# Altium footprint library 28377一体板.PcbLib: 62 footprints (part 3 of 4)
Each footprint in its own frame and in the unit in brackets; x right, y up, seen from the top. Pads: shape width x height; smd on the part's side, far side on the other; paste and mask are expansions set on the pad; w line width, h text height; cw(c..) or ccw(c..) is an arc to the next point about the centre after c.
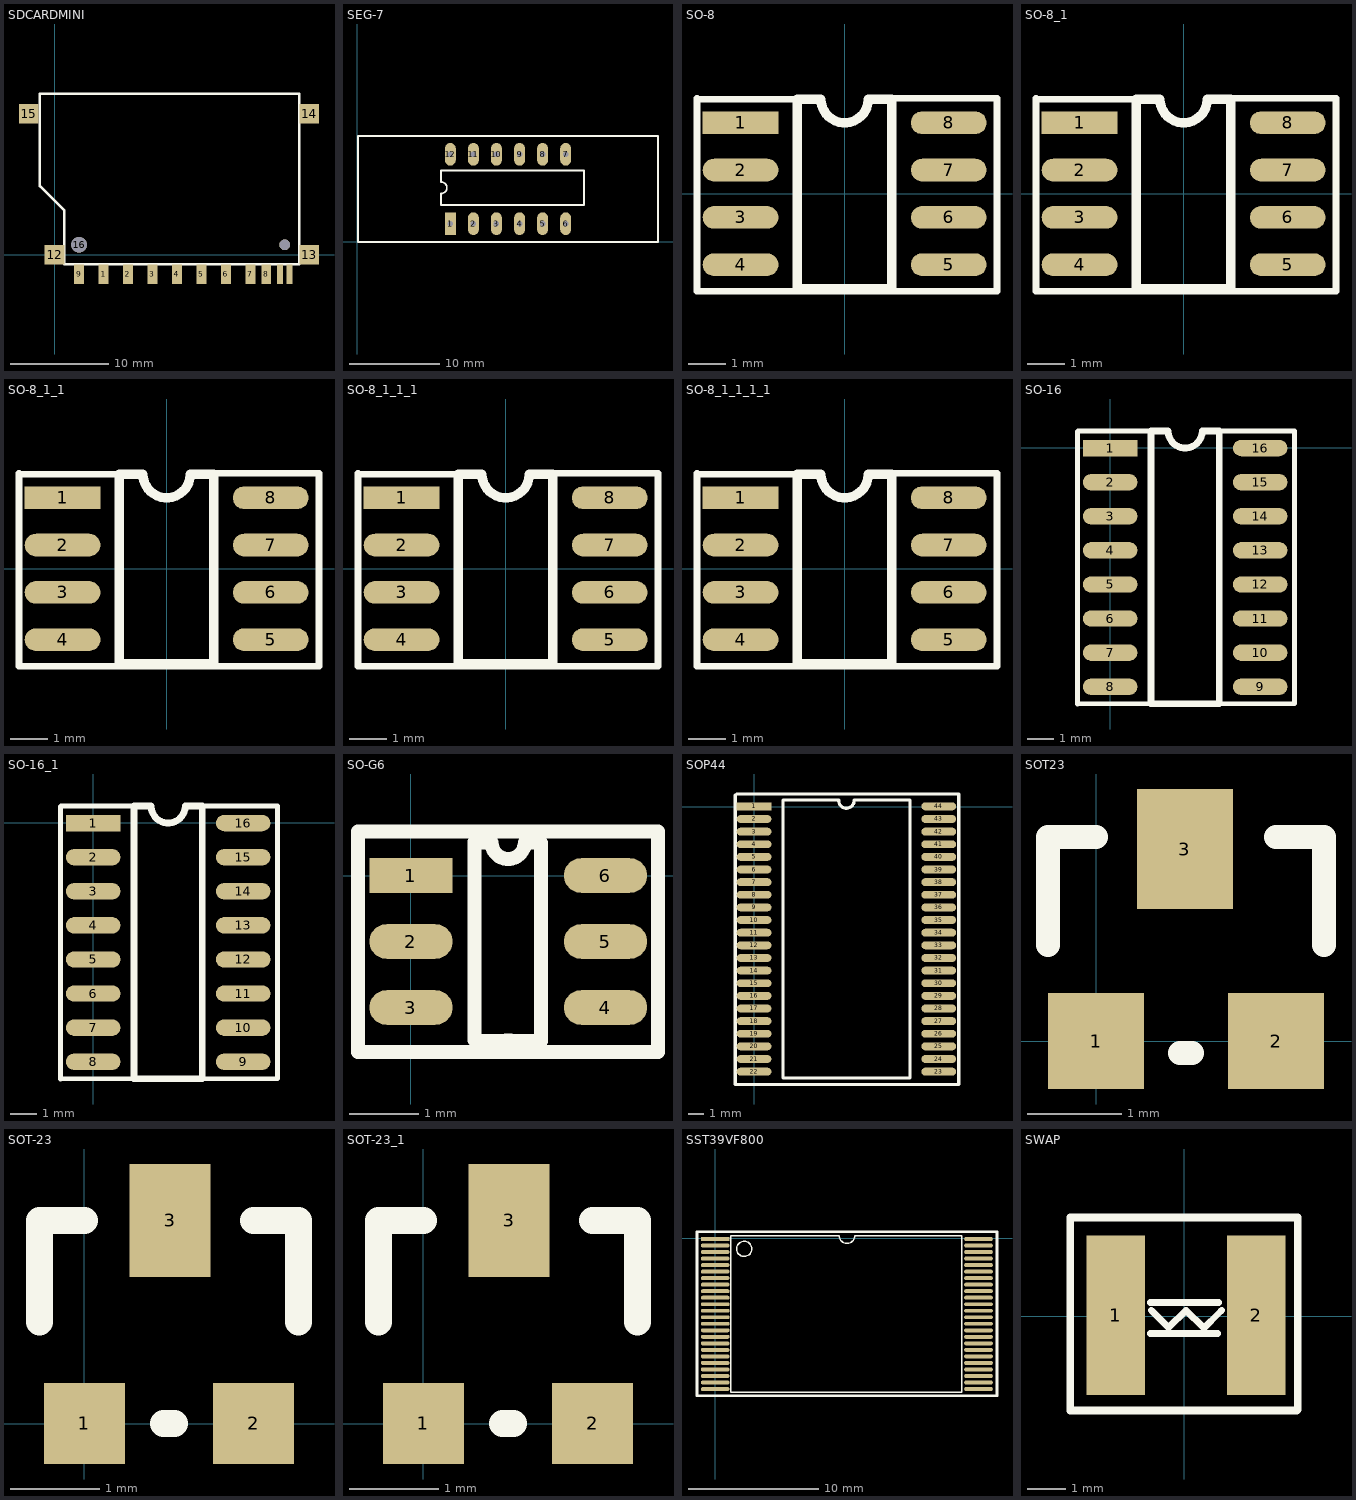
[diagram p2: the footprints below, top view; thin cyan lines are the x and y axes]

## SDCARDMINI [mm]
pads (17):
  rect 1x2 smd: 1(4.991,-2.009) 2(7.491,-2.009) 3(9.991,-2.009) 4(12.491,-2.009) 5(14.991,-2.009) 6(17.491,-2.009) 7(19.991,-2.009) 8(21.616,-2.009) 9(2.491,-2.009)
  rect 0.6x2 smd: 10(23.991,-2.009) 11(22.991,-2.009)
  rect 2x2 smd: 12(-0.009,-0.009) 13(25.991,-0.009) 14(25.991,14.391) 15(-2.637,14.391)
  round 1.6 hole 1.6: 16(2.491,0.991)
  round 1.1 hole 1.1: ""(23.491,0.991)
Top Overlay:
  lines w0.254: -1.509,6.991 0.991,4.491 0.991,-1.009 24.991,-1.009 24.991,16.391 -1.509,16.391 -1.509,6.991

## SEG-7 [mm]
pads (12):
  rect 1.2x2.5 hole 0.6: 1(10.236,2.007)
  oval 1.2x2.5 hole 0.6: 2(12.776,2.007) 3(15.316,2.007) 4(17.856,2.007) 5(20.396,2.007) 6(22.936,2.007) 7(22.936,9.627) 8(20.396,9.627) 9(17.856,9.627) 10(15.316,9.627) 11(12.776,9.627) 12(10.236,9.627)
Top Overlay:
  lines w0.2: 9.22,4.039 9.22,5.319 ccw(c9.22,5.954) 9.22,6.589 9.22,7.869 ; 24.968,4.039 24.968,7.869
  lines w0.203: 9.22,4.039 24.968,4.039 ; 9.22,7.869 24.968,7.869 ; 0.076,-0.025 0.076,4.039 0.076,11.659 1.092,11.659 33.096,11.659 33.096,4.039 33.096,-0.025 1.092,-0.025 0.076,-0.025

## SO-8 [mil]
pads (8):
  rect 80x24 smd: 1(-110,75)
  oval 80x24 smd: 2(-110,25) 3(-110,-25) 4(-110,-75) 5(110,-75) 6(110,-25) 7(110,25) 8(110,75)
Top Overlay:
  lines w7: -156,101 -156,-103 161,-103 161,101 47,101 ; -155,100 -50,100
  lines w10: -50,-100.3 50,-100.3 50,100 25,100 cw(c0,100) -25,100 -50,100 -50,-100.3

## SO-8_1 [mil]
pads (8):
  rect 80x24 smd: 1(-110,75)
  oval 80x24 smd: 2(-110,25) 3(-110,-25) 4(-110,-75) 5(110,-75) 6(110,-25) 7(110,25) 8(110,75)
Top Overlay:
  lines w7: -156,101 -156,-103 161,-103 161,101 47,101 ; -155,100 -50,100
  lines w10: -50,-100.3 50,-100.3 50,100 25,100 cw(c0,100) -25,100 -50,100 -50,-100.3

## SO-8_1_1 [mil]
pads (8):
  rect 80x24 smd: 1(-110,75)
  oval 80x24 smd: 2(-110,25) 3(-110,-25) 4(-110,-75) 5(110,-75) 6(110,-25) 7(110,25) 8(110,75)
Top Overlay:
  lines w7: -156,101 -156,-103 161,-103 161,101 47,101 ; -155,100 -50,100
  lines w10: -50,-100.3 50,-100.3 50,100 25,100 cw(c0,100) -25,100 -50,100 -50,-100.3

## SO-8_1_1_1 [mil]
pads (8):
  rect 80x24 smd: 1(-110,75)
  oval 80x24 smd: 2(-110,25) 3(-110,-25) 4(-110,-75) 5(110,-75) 6(110,-25) 7(110,25) 8(110,75)
Top Overlay:
  lines w7: -156,101 -156,-103 161,-103 161,101 47,101 ; -155,100 -50,100
  lines w10: -50,-100.3 50,-100.3 50,100 25,100 cw(c0,100) -25,100 -50,100 -50,-100.3

## SO-8_1_1_1_1 [mil]
pads (8):
  rect 80x24 smd: 1(-110,75)
  oval 80x24 smd: 2(-110,25) 3(-110,-25) 4(-110,-75) 5(110,-75) 6(110,-25) 7(110,25) 8(110,75)
Top Overlay:
  lines w7: -156,101 -156,-103 161,-103 161,101 47,101 ; -155,100 -50,100
  lines w10: -50,-100.3 -50,100 -25,100 ccw(c0,100) 25,100 50,100 50,-100.3 -50,-100.3

## SO-16 [mil]
pads (16):
  rect 80x24 smd: 1(-0.23,-0.21)
  oval 80x24 smd: 2(-0.23,-50.21) 3(-0.23,-100.21) 4(-0.23,-150.21) 5(-0.23,-200.21) 6(-0.23,-250.21) 7(-0.23,-300.21) 8(-0.23,-350.21) 9(219.77,-350.21) 10(219.77,-300.21) 11(219.77,-250.21) 12(219.77,-200.21) 13(219.77,-150.21) 14(219.77,-100.21) 15(219.77,-50.21) 16(219.77,-0.21)
Top Overlay:
  lines w7: -48,19 -48,24 ; -48,20 -48,-376 -47.21,-375.21 86,-375.21 ; -47.21,24.79 62,24.79 ; 155,24.79 269.79,24.79 270,25 ; 157,-375.21 269.79,-375.21 270,-375 270,24
  lines w10: 59.77,-375.21 159.77,-375.21 159.77,24.79 134.77,24.79 cw(c109.77,24.79) 84.77,24.79 59.77,24.79 59.77,-375.21

## SO-16_1 [mil]
pads (16):
  rect 80x24 smd: 1(-0.23,-0.21)
  oval 80x24 smd: 2(-0.23,-50.21) 3(-0.23,-100.21) 4(-0.23,-150.21) 5(-0.23,-200.21) 6(-0.23,-250.21) 7(-0.23,-300.21) 8(-0.23,-350.21) 9(219.77,-350.21) 10(219.77,-300.21) 11(219.77,-250.21) 12(219.77,-200.21) 13(219.77,-150.21) 14(219.77,-100.21) 15(219.77,-50.21) 16(219.77,-0.21)
Top Overlay:
  lines w7: -48,19 -48,24 ; -48,20 -48,-376 -47.21,-375.21 86,-375.21 ; -47.21,24.79 62,24.79 ; 155,24.79 269.79,24.79 270,25 ; 157,-375.21 269.79,-375.21 270,-375 270,24
  lines w10: 59.77,-375.21 159.77,-375.21 159.77,24.79 134.77,24.79 cw(c109.77,24.79) 84.77,24.79 59.77,24.79 59.77,-375.21

## SO-G6 [mm]
pads (6):
  rect 1.2x0.5 smd: 1(0,0)
  oval 1.2x0.5 smd: 2(0,-0.95) 3(0,-1.9) 4(2.8,-1.9) 5(2.8,-0.95) 6(2.8,0)
Top Overlay:
  lines w0.2: 0.915,-2.365 0.915,0.485 ; 0.925,0.475 1.163,0.475 ccw(c1.4,0.475) 1.637,0.475 1.865,0.475 ; 0.933,-2.383 1.503,-2.383 1.873,-2.383 1.873,0.467 ; 1.365,-2.375 1.435,-2.375
  lines w0.203: -0.762,-2.54 -0.762,0.635 3.556,0.635 3.556,-2.54 -0.762,-2.54

## SOP44 [mm]
pads (44):
  rect 2.2x0.5 smd: 1(-0.005,0.009)
  oval 2.2x0.5 smd: 2(-0.005,-0.791) 3(-0.005,-1.591) 4(-0.005,-2.391) 5(-0.005,-3.191) 6(-0.005,-3.991) 7(-0.005,-4.791) 8(-0.005,-5.591) 9(-0.005,-6.391) 10(-0.005,-7.191) 11(-0.005,-7.991) 12(-0.005,-8.791) 13(-0.005,-9.591) 14(-0.005,-10.391) 15(-0.005,-11.191) 16(-0.005,-11.991) 17(-0.005,-12.791) 18(-0.005,-13.591) 19(-0.005,-14.391) 20(-0.005,-15.191) 21(-0.005,-15.991) 22(-0.005,-16.791) 23(11.695,-16.791) 24(11.695,-15.991) 25(11.695,-15.191) 26(11.695,-14.391) 27(11.695,-13.591) 28(11.695,-12.791) 29(11.695,-11.991) 30(11.695,-11.191) 31(11.695,-10.391) 32(11.695,-9.591) 33(11.695,-8.791) 34(11.695,-7.991) 35(11.695,-7.191) 36(11.695,-6.391) 37(11.695,-5.591) 38(11.695,-4.791) 39(11.695,-3.991) 40(11.695,-3.191) 41(11.695,-2.391) 42(11.695,-1.591) 43(11.695,-0.791) 44(11.695,0.009)
Top Overlay:
  lines w0.2: 1.83,0.409 1.83,-17.191 9.86,-17.191 9.86,0.409
  lines w0.203: -0.991,-17.602 12.7,-17.602 ; -0.864,-17.602 -1.194,-17.602 -1.194,-17.399 -1.194,0.711 -1.118,0.787 12.573,0.787 ; 1.83,0.409 5.354,0.409 ccw(c5.842,0.381) 6.331,0.4 ; 6.34,0.409 6.57,0.409 9.86,0.409 ; 12.497,0.787 12.954,0.787 ; 12.675,-17.602 12.929,-17.602 ; 12.954,-17.602 12.954,-17.348 12.954,0.406 ; 12.954,0.279 12.954,0.762

## SOT23 [mil]
pads (3):
  rect 40x40 smd: 1(0,0) 2(75,0)
  rect 40x50 smd: 3(37,80)
Top Overlay:
  lines w10: -20,40 -20,85 0,85 ; 35,-5 40,-5 ; 75,85 95,85 95,40

## SOT-23 [mil]
pads (3):
  rect 36x36 smd: 1(0.06,0.16) 2(75.06,0.16)
  rect 36x50 smd: 3(38.05,90.16)
Top Overlay:
  lines w12: -19.95,45.16 -19.95,90.16 0.06,90.16 ; 35.05,0.16 40.05,0.16 ; 75.06,90.16 95.06,90.16 95.06,45.16

## SOT-23_1 [mil]
pads (3):
  rect 36x36 smd: 1(0.06,0.16) 2(75.06,0.16)
  rect 36x50 smd: 3(38.05,90.16)
Top Overlay:
  lines w12: -19.95,45.16 -19.95,90.16 0.06,90.16 ; 35.05,0.16 40.05,0.16 ; 75.06,90.16 95.06,90.16 95.06,45.16

## SST39VF800 [mm]
pads (48):
  rect 2.2x0.3 smd: 1(-0.001,-0.048)
  oval 2.2x0.3 smd: 2(-0.001,-0.548) 3(-0.001,-1.048) 4(-0.001,-1.548) 5(-0.001,-2.048) 6(-0.001,-2.548) 7(-0.001,-3.048) 8(-0.001,-3.548) 9(-0.001,-4.048) 10(-0.001,-4.548) 11(-0.001,-5.048) 12(-0.001,-5.548) 13(-0.001,-6.048) 14(-0.001,-6.548) 15(-0.001,-7.048) 16(-0.001,-7.548) 17(-0.001,-8.048) 18(-0.001,-8.548) 19(-0.001,-9.048) 20(-0.001,-9.548) 21(-0.001,-10.048) 22(-0.001,-10.548) 23(-0.001,-11.048) 24(-0.001,-11.548) 25(20.174,-11.548) 26(20.174,-11.048) 27(20.174,-10.548) 28(20.174,-10.048) 29(20.174,-9.548) 30(20.174,-9.048) 31(20.174,-8.548) 32(20.174,-8.048) 33(20.174,-7.548) 34(20.174,-7.048) 35(20.174,-6.548) 36(20.174,-6.048) 37(20.174,-5.548) 38(20.174,-5.048) 39(20.174,-4.548) 40(20.174,-4.048) 41(20.174,-3.548) 42(20.174,-3.048) 43(20.174,-2.548) 44(20.174,-2.048) 45(20.174,-1.548) 46(20.174,-1.048) 47(20.174,-0.548) 48(20.174,-0.048)
Top Overlay:
  circle w0.1: c2.214,-0.803 r0.584
  lines w0.1: 1.197,-11.798 18.897,-11.798 18.897,0.202 10.697,0.202 cw(c10.097,0.202) 9.497,0.202 1.197,0.202 1.197,-11.798
  lines w0.203: -1.397,-12.065 -1.397,0.508 21.59,0.508 21.59,-12.065 -1.397,-12.065

## SWAP [mm]
pads (2):
  rect 1.55x4.2 smd: 1(-1.803,0.025) 2(1.905,0.025)
Top Overlay:
  lines w0.152: -2.573,2.6 2.827,2.6
  lines w0.178: -0.889,-0.457 0.889,-0.457 ; -0.889,0.356 0.914,0.356 ; -0.864,0.152 -0.406,-0.305 0.051,0.152 0.508,-0.305 0.533,-0.305 0.914,0.076 0.991,0.152
  lines w0.203: -2.997,2.54 -2.997,-2.489 2.972,-2.489 2.997,-2.464 2.997,2.6 -2.997,2.6